# Altium footprint library MGJ2D121509MPCR7.PcbLib: 1 footprints
Each footprint in its own frame and in the unit in brackets; x right, y up, seen from the top. Pads: shape width x height; smd on the part's side, far side on the other; paste and mask are expansions set on the pad; w line width, h text height; cw(c..) or ccw(c..) is an arc to the next point about the centre after c.
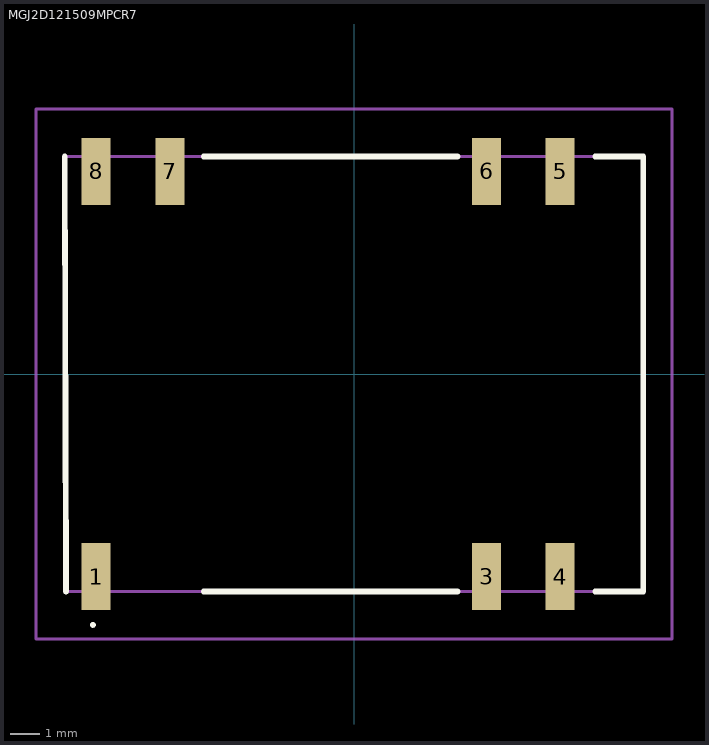
[diagram p0: the footprint, top view; thin cyan lines are the x and y axes]

## MGJ2D121509MPCR7 [mm]
pads (7):
  rect 1x2.3 smd: 1(-8.89,-6.985) 3(4.57,-6.985) 4(7.11,-6.985) 5(7.11,6.985) 6(4.57,6.985) 7(-6.35,6.985) 8(-8.89,6.985)
Top Overlay:
  lines w0.1: -9,-8.7 -9,-8.7 ; -9,-8.7 ccw(c-9,-8.65) -9,-8.6 ; -9,-8.7 cw(c-9,-8.65) -9,-8.6 ; -9,-8.7 -9,-8.7 ; -9,-8.7 ccw(c-9,-8.65) -9,-8.6 ; -9,-8.6 -9,-8.6
  lines w0.2: -9.97,7.495 -9.93,-7.5 ; -5.18,-7.5 3.57,-7.5 ; -5.18,7.5 3.57,7.495 ; 8.32,-7.495 9.97,-7.5 9.97,7.495 8.32,7.495
Mechanical 15:
  lines w0.1: -9.97,-7.495 9.97,-7.495 9.97,7.495 -9.97,7.495 -9.97,-7.495
Mechanical 20:
  lines w0.1: -10.97,-9.135 10.97,-9.135 10.97,9.135 -10.97,9.135 -10.97,-9.135